# Altium integrated library NSC Switcher.IntLib: 2027 symbols (part 9 of 54)
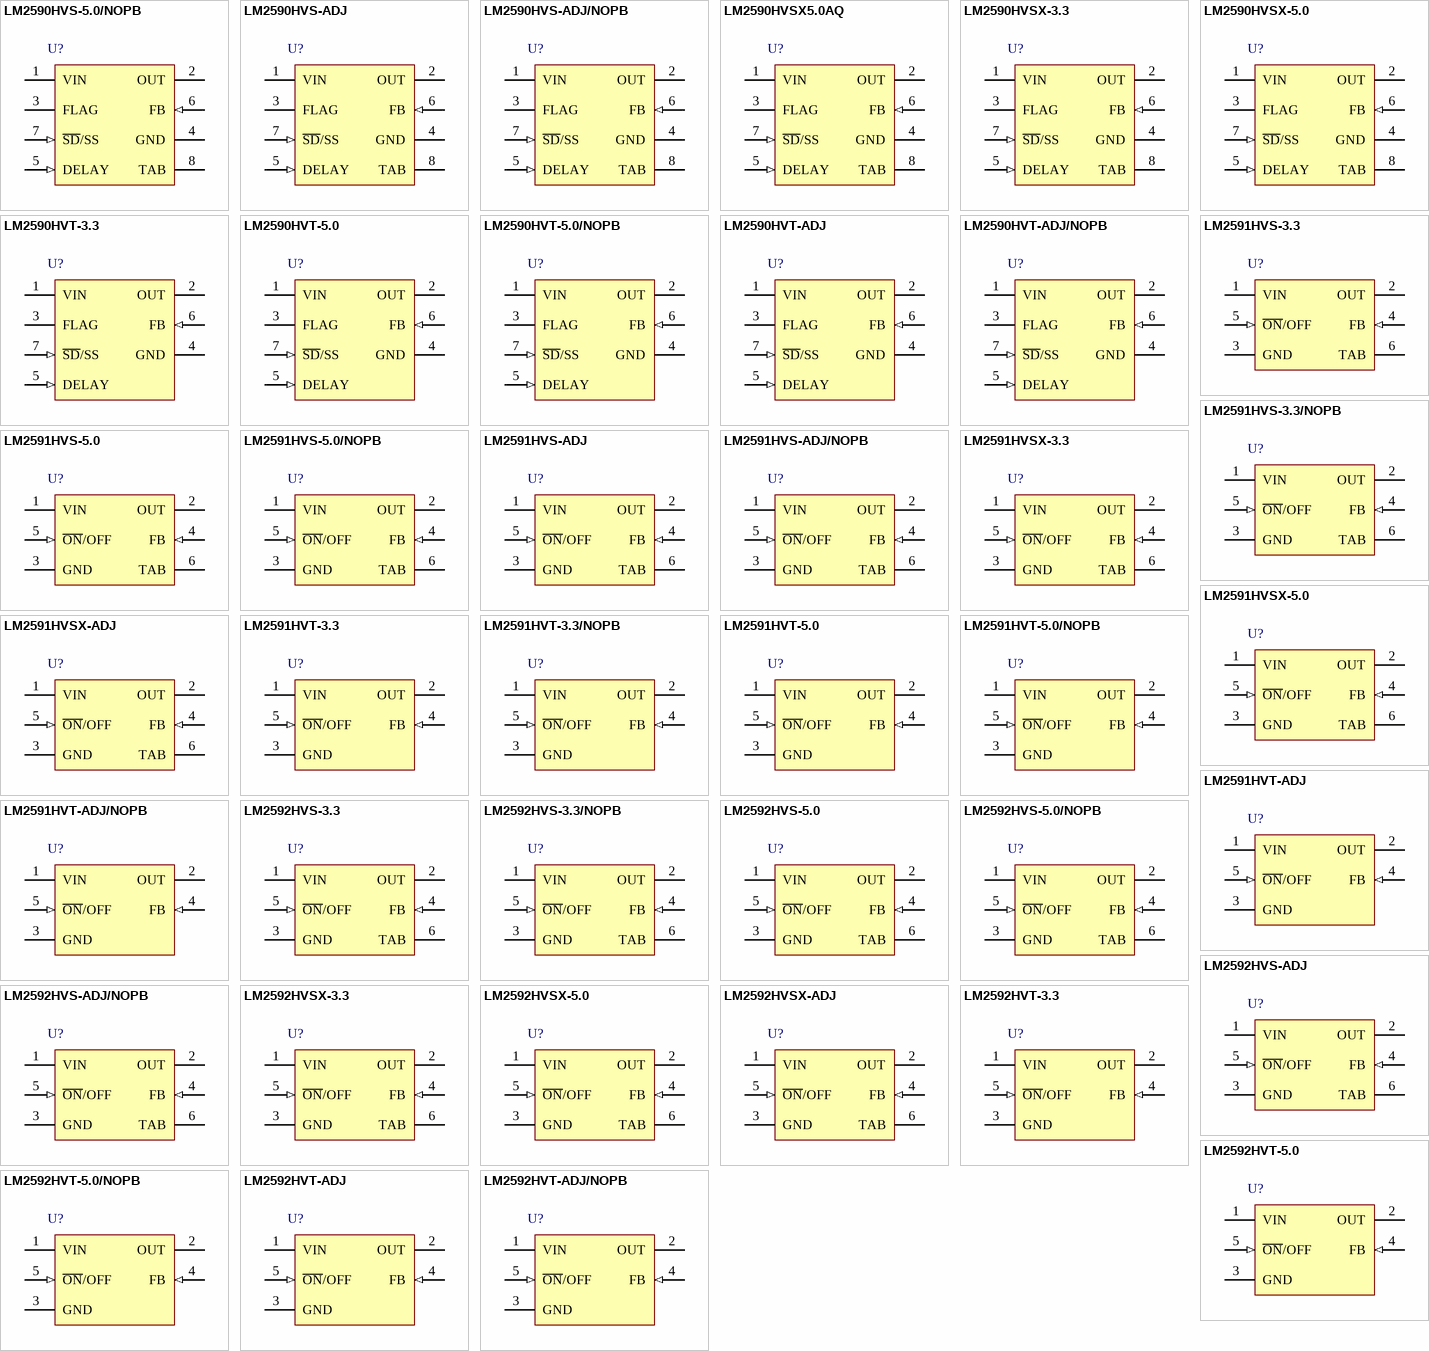
[diagram p71: symbols LM2590HVS-5.0/NOPB to LM2592HVT-ADJ/NOPB]

## LM2590HVT-3.3
designator U?
SIMPLE SWITCHER® Power Converter 150 KHz 1A Step-Down Voltage Regulator with Features, 7-pin TO-220; PartNumber: LM2590HVT-3.3; Manufacturer: National Semiconductor; PackageTopMarking: NSUZXYTTE#*LM2590HVT*-3.3 P+; PowerWise: N; Published: 4-Dec-2008; DatasheetVersion: Dec-2001; PackageVersion: revC, Apr-1999; PackageReference: TA07B; Publisher: Altium Limited; PackageDescription: TO-220, Molded, .400 x .590 x .180in Body, 7 Lead, .050in Pitch, Staggered; Supplier 1: Farnell; Supplier Part Number 1: 9489495; RoHS: N; PinCount: 7; CompType: Switcher; Code_JEDEC: TO-220-AB; ComponentLink1Description: LM2590HV Datasheet; ComponentLink1URL: http://www.national.com/ds/LM/LM2590HV.pdf; ComponentLink2Description: LM2590HV Web Page; ComponentLink2URL: http://www.national.com/pf/LM/LM2590HV.html; ComponentLink3Description: TA07B Package Page; ComponentLink3URL: http://www.national.com/packaging/folders/ta07b.html
footprint TA07B (TO, Thru-Hole, Vertical, Heatsink Mounted; 7 Bent Staggered Leads; Body 10.2x8.7x4.6mm, Pitch 1.27 mm)
pins: 1 VIN (power), 2 OUT (power), 3 FLAG (oc), 4 GND (power), 5 DELAY (in), 6 FB (in), 7 ~{SD}/SS (in)

## LM2590HVT-5.0
designator U?
SIMPLE SWITCHER® Power Converter 150 KHz 1A Step-Down Voltage Regulator with Features, 7-pin TO-220; PartNumber: LM2590HVT-5.0; Manufacturer: National Semiconductor; PackageTopMarking: NSUZXYTTE#*LM2590HVT*-5.0 P+; PowerWise: N; Published: 4-Dec-2008; DatasheetVersion: Dec-2001; PackageVersion: revC, Apr-1999; PackageReference: TA07B; Publisher: Altium Limited; PackageDescription: TO-220, Molded, .400 x .590 x .180in Body, 7 Lead, .050in Pitch, Staggered; Supplier 1: Farnell; Supplier Part Number 1: 9489509; RoHS: N; PinCount: 7; CompType: Switcher; Code_JEDEC: TO-220-AB; ComponentLink1Description: LM2590HV Datasheet; ComponentLink1URL: http://www.national.com/ds/LM/LM2590HV.pdf; ComponentLink2Description: LM2590HV Web Page; ComponentLink2URL: http://www.national.com/pf/LM/LM2590HV.html; ComponentLink3Description: TA07B Package Page; ComponentLink3URL: http://www.national.com/packaging/folders/ta07b.html
footprint TA07B (TO, Thru-Hole, Vertical, Heatsink Mounted; 7 Bent Staggered Leads; Body 10.2x8.7x4.6mm, Pitch 1.27 mm)
pins: 1 VIN (power), 2 OUT (power), 3 FLAG (oc), 4 GND (power), 5 DELAY (in), 6 FB (in), 7 ~{SD}/SS (in)

## LM2590HVT-5.0/NOPB
designator U?
SIMPLE SWITCHER® Power Converter 150 KHz 1A Step-Down Voltage Regulator with Features, 7-pin TO-220, Pb-Free; PartNumber: LM2590HVT-5.0/NOPB; Manufacturer: National Semiconductor; PackageTopMarking: NSUZXYTTE#*LM2590HVT*-5.0 P+; PowerWise: N; Published: 1-Mar-2010; DatasheetVersion: Dec-2001; PackageVersion: revC, Apr-1999; PackageReference: TA07B; Publisher: Altium Limited; PackageDescription: TO-220, Molded, .400 x .590 x .180in Body, 7 Lead, .050in Pitch, Staggered; Supplier 1: Digi-Key; Supplier Part Number 1: LM2590HVT-5.0-ND; RoHS: Y; PinCount: 7; CompType: Switcher; Code_JEDEC: TO-220-AB; ComponentLink1Description: LM2590HV Datasheet; ComponentLink1URL: http://www.national.com/ds/LM/LM2590HV.pdf; ComponentLink2Description: LM2590HV Web Page; ComponentLink2URL: http://www.national.com/pf/LM/LM2590HV.html; ComponentLink3Description: TA07B Package Page; ComponentLink3URL: http://www.national.com/packaging/folders/ta07b.html
footprint TA07B (TO, Thru-Hole, Vertical, Heatsink Mounted; 7 Bent Staggered Leads; Body 10.2x8.7x4.6mm, Pitch 1.27 mm)
pins: 1 VIN (power), 2 OUT (power), 3 FLAG (oc), 4 GND (power), 5 DELAY (in), 6 FB (in), 7 ~{SD}/SS (in)

## LM2590HVT-ADJ
designator U?
SIMPLE SWITCHER® Power Converter 150 KHz 1A Step-Down Voltage Regulator with Features, 7-pin TO-220; PartNumber: LM2590HVT-ADJ; Manufacturer: National Semiconductor; PackageTopMarking: NSUZXYTTE#*LM2590HVT*-ADJ P+; PowerWise: N; Published: 4-Dec-2008; DatasheetVersion: Dec-2001; PackageVersion: revC, Apr-1999; PackageReference: TA07B; Publisher: Altium Limited; PackageDescription: TO-220, Molded, .400 x .590 x .180in Body, 7 Lead, .050in Pitch, Staggered; Supplier 1: Farnell; Supplier Part Number 1: 9489517; RoHS: N; PinCount: 7; CompType: Switcher; Code_JEDEC: TO-220-AB; ComponentLink1Description: LM2590HV Datasheet; ComponentLink1URL: http://www.national.com/ds/LM/LM2590HV.pdf; ComponentLink2Description: LM2590HV Web Page; ComponentLink2URL: http://www.national.com/pf/LM/LM2590HV.html; ComponentLink3Description: TA07B Package Page; ComponentLink3URL: http://www.national.com/packaging/folders/ta07b.html
footprint TA07B (TO, Thru-Hole, Vertical, Heatsink Mounted; 7 Bent Staggered Leads; Body 10.2x8.7x4.6mm, Pitch 1.27 mm)
pins: 1 VIN (power), 2 OUT (power), 3 FLAG (oc), 4 GND (power), 5 DELAY (in), 6 FB (in), 7 ~{SD}/SS (in)

## LM2590HVT-ADJ/NOPB
designator U?
SIMPLE SWITCHER® Power Converter 150 KHz 1A Step-Down Voltage Regulator with Features, 7-pin TO-220, Pb-Free; PartNumber: LM2590HVT-ADJ/NOPB; Manufacturer: National Semiconductor; PackageTopMarking: NSUZXYTTE#*LM2590HVT*-ADJ P+; PowerWise: N; Published: 1-Mar-2010; DatasheetVersion: Dec-2001; PackageVersion: revC, Apr-1999; PackageReference: TA07B; Publisher: Altium Limited; PackageDescription: TO-220, Molded, .400 x .590 x .180in Body, 7 Lead, .050in Pitch, Staggered; Supplier 1: Digi-Key; Supplier Part Number 1: LM2590HVT-ADJ-ND; RoHS: Y; PinCount: 7; CompType: Switcher; Code_JEDEC: TO-220-AB; ComponentLink1Description: LM2590HV Datasheet; ComponentLink1URL: http://www.national.com/ds/LM/LM2590HV.pdf; ComponentLink2Description: LM2590HV Web Page; ComponentLink2URL: http://www.national.com/pf/LM/LM2590HV.html; ComponentLink3Description: TA07B Package Page; ComponentLink3URL: http://www.national.com/packaging/folders/ta07b.html
footprint TA07B (TO, Thru-Hole, Vertical, Heatsink Mounted; 7 Bent Staggered Leads; Body 10.2x8.7x4.6mm, Pitch 1.27 mm)
pins: 1 VIN (power), 2 OUT (power), 3 FLAG (oc), 4 GND (power), 5 DELAY (in), 6 FB (in), 7 ~{SD}/SS (in)

## LM2591HVS-3.3
designator U?
SIMPLE SWITCHER® Power Converter 150 kHz 1A Step-Down Voltage Regulator, 5-pin TO-263; PartNumber: LM2591HVS-3.3; Manufacturer: National Semiconductor; PackageTopMarking: NSUZXYTTE#*LM2591HVS*-3.3 P+; PowerWise: N; Published: 4-Dec-2008; DatasheetVersion: Jul-2003; PackageVersion: revD, Apr-2005; PackageReference: TS5B; Publisher: Altium Limited; PackageDescription: TO-263, Molded, .400 x .390 x .180in, 5 Lead, .067in Pitch, Surface Mount; Supplier 1: Farnell; Supplier Part Number 1: 4800059; RoHS: N; PinCount: 5; CompType: Switcher; Code_JEDEC: MO-169-AB; ComponentLink1Description: LM2591HV Datasheet; ComponentLink1URL: http://www.national.com/ds/LM/LM2591HV.pdf; ComponentLink2Description: LM2591HV Web Page; ComponentLink2URL: http://www.national.com/pf/LM/LM2591HV.html; ComponentLink3Description: TS5B Package Page; ComponentLink3URL: http://www.national.com/packaging/folders/ts5b.html
footprint TS5B_N (D2-PAK, 6-Leads, Body 8.6x10.2mm, Pitch 1.7mm, Lead Span 14.1mm, IPC Medium Density)
footprint TS5B_L (D2-PAK, 6-Leads, Body 8.6x10.2mm, Pitch 1.7mm, Lead Span 14.1mm, IPC High Density)
footprint TS5B_M (D2-PAK, 6-Leads, Body 8.6x10.2mm, Pitch 1.7mm, Lead Span 14.1mm, IPC Low Density)
pins: 1 VIN (power), 2 OUT (power), 3 GND (power), 4 FB (in), 5 ~{ON}/OFF (in), 6 TAB (power)

## LM2591HVS-3.3/NOPB
designator U?
SIMPLE SWITCHER® Power Converter 150 kHz 1A Step-Down Voltage Regulator, 5-pin TO-263, Pb-Free; PartNumber: LM2591HVS-3.3/NOPB; Manufacturer: National Semiconductor; PackageTopMarking: NSUZXYTTE#*LM2591HVS*-3.3 P+; PowerWise: N; Published: 1-Mar-2010; DatasheetVersion: Jul-2003; PackageVersion: revD, Apr-2005; PackageReference: TS5B; Publisher: Altium Limited; PackageDescription: TO-263, Molded, .400 x .390 x .180in, 5 Lead, .067in Pitch, Surface Mount; Supplier 1: Digi-Key; Supplier Part Number 1: LM2591HVS-3.3-ND; RoHS: Y; PinCount: 5; CompType: Switcher; Code_JEDEC: MO-169-AB; ComponentLink1Description: LM2591HV Datasheet; ComponentLink1URL: http://www.national.com/ds/LM/LM2591HV.pdf; ComponentLink2Description: LM2591HV Web Page; ComponentLink2URL: http://www.national.com/pf/LM/LM2591HV.html; ComponentLink3Description: TS5B Package Page; ComponentLink3URL: http://www.national.com/packaging/folders/ts5b.html
footprint TS5B_N (D2-PAK, 6-Leads, Body 8.6x10.2mm, Pitch 1.7mm, Lead Span 14.1mm, IPC Medium Density)
footprint TS5B_L (D2-PAK, 6-Leads, Body 8.6x10.2mm, Pitch 1.7mm, Lead Span 14.1mm, IPC High Density)
footprint TS5B_M (D2-PAK, 6-Leads, Body 8.6x10.2mm, Pitch 1.7mm, Lead Span 14.1mm, IPC Low Density)
pins: 1 VIN (power), 2 OUT (power), 3 GND (power), 4 FB (in), 5 ~{ON}/OFF (in), 6 TAB (power)

## LM2591HVS-5.0
designator U?
SIMPLE SWITCHER® Power Converter 150 kHz 1A Step-Down Voltage Regulator, 5-pin TO-263; PartNumber: LM2591HVS-5.0; Manufacturer: National Semiconductor; PackageTopMarking: NSUZXYTTE#*LM2591HVS*-5.0 P+; PowerWise: N; Published: 4-Dec-2008; DatasheetVersion: Jul-2003; PackageVersion: revD, Apr-2005; PackageReference: TS5B; Publisher: Altium Limited; PackageDescription: TO-263, Molded, .400 x .390 x .180in, 5 Lead, .067in Pitch, Surface Mount; Supplier 1: Farnell; Supplier Part Number 1: 4800060; RoHS: N; PinCount: 5; CompType: Switcher; Code_JEDEC: MO-169-AB; ComponentLink1Description: LM2591HV Datasheet; ComponentLink1URL: http://www.national.com/ds/LM/LM2591HV.pdf; ComponentLink2Description: LM2591HV Web Page; ComponentLink2URL: http://www.national.com/pf/LM/LM2591HV.html; ComponentLink3Description: TS5B Package Page; ComponentLink3URL: http://www.national.com/packaging/folders/ts5b.html
footprint TS5B_N (D2-PAK, 6-Leads, Body 8.6x10.2mm, Pitch 1.7mm, Lead Span 14.1mm, IPC Medium Density)
footprint TS5B_L (D2-PAK, 6-Leads, Body 8.6x10.2mm, Pitch 1.7mm, Lead Span 14.1mm, IPC High Density)
footprint TS5B_M (D2-PAK, 6-Leads, Body 8.6x10.2mm, Pitch 1.7mm, Lead Span 14.1mm, IPC Low Density)
pins: 1 VIN (power), 2 OUT (power), 3 GND (power), 4 FB (in), 5 ~{ON}/OFF (in), 6 TAB (power)

## LM2591HVS-5.0/NOPB
designator U?
SIMPLE SWITCHER® Power Converter 150 kHz 1A Step-Down Voltage Regulator, 5-pin TO-263, Pb-Free; PartNumber: LM2591HVS-5.0/NOPB; Manufacturer: National Semiconductor; PackageTopMarking: NSUZXYTTE#*LM2591HVS*-5.0 P+; PowerWise: N; Published: 1-Mar-2010; DatasheetVersion: Jul-2003; PackageVersion: revD, Apr-2005; PackageReference: TS5B; Publisher: Altium Limited; PackageDescription: TO-263, Molded, .400 x .390 x .180in, 5 Lead, .067in Pitch, Surface Mount; Supplier 1: Digi-Key; Supplier Part Number 1: LM2591HVS-5.0-ND; Supplier 2: Farnell; Supplier Part Number 2: 1469185; RoHS: Y; PinCount: 5; CompType: Switcher; Code_JEDEC: MO-169-AB; ComponentLink1Description: LM2591HV Datasheet; ComponentLink1URL: http://www.national.com/ds/LM/LM2591HV.pdf; ComponentLink2Description: LM2591HV Web Page; ComponentLink2URL: http://www.national.com/pf/LM/LM2591HV.html; ComponentLink3Description: TS5B Package Page; ComponentLink3URL: http://www.national.com/packaging/folders/ts5b.html
footprint TS5B_N (D2-PAK, 6-Leads, Body 8.6x10.2mm, Pitch 1.7mm, Lead Span 14.1mm, IPC Medium Density)
footprint TS5B_L (D2-PAK, 6-Leads, Body 8.6x10.2mm, Pitch 1.7mm, Lead Span 14.1mm, IPC High Density)
footprint TS5B_M (D2-PAK, 6-Leads, Body 8.6x10.2mm, Pitch 1.7mm, Lead Span 14.1mm, IPC Low Density)
pins: 1 VIN (power), 2 OUT (power), 3 GND (power), 4 FB (in), 5 ~{ON}/OFF (in), 6 TAB (power)

## LM2591HVS-ADJ
designator U?
SIMPLE SWITCHER® Power Converter 150 kHz 1A Step-Down Voltage Regulator, 5-pin TO-263; PartNumber: LM2591HVS-ADJ; Manufacturer: National Semiconductor; PackageTopMarking: NSUZXYTTE#*LM2591HVS*-ADJ P+; PowerWise: N; Published: 4-Dec-2008; DatasheetVersion: Jul-2003; PackageVersion: revD, Apr-2005; PackageReference: TS5B; Publisher: Altium Limited; PackageDescription: TO-263, Molded, .400 x .390 x .180in, 5 Lead, .067in Pitch, Surface Mount; Supplier 1: Farnell; Supplier Part Number 1: 4538640; RoHS: N; PinCount: 5; CompType: Switcher; Code_JEDEC: MO-169-AB; ComponentLink1Description: LM2591HV Datasheet; ComponentLink1URL: http://www.national.com/ds/LM/LM2591HV.pdf; ComponentLink2Description: LM2591HV Web Page; ComponentLink2URL: http://www.national.com/pf/LM/LM2591HV.html; ComponentLink3Description: TS5B Package Page; ComponentLink3URL: http://www.national.com/packaging/folders/ts5b.html
footprint TS5B_N (D2-PAK, 6-Leads, Body 8.6x10.2mm, Pitch 1.7mm, Lead Span 14.1mm, IPC Medium Density)
footprint TS5B_L (D2-PAK, 6-Leads, Body 8.6x10.2mm, Pitch 1.7mm, Lead Span 14.1mm, IPC High Density)
footprint TS5B_M (D2-PAK, 6-Leads, Body 8.6x10.2mm, Pitch 1.7mm, Lead Span 14.1mm, IPC Low Density)
pins: 1 VIN (power), 2 OUT (power), 3 GND (power), 4 FB (in), 5 ~{ON}/OFF (in), 6 TAB (power)

## LM2591HVS-ADJ/NOPB
designator U?
SIMPLE SWITCHER® Power Converter 150 kHz 1A Step-Down Voltage Regulator, 5-pin TO-263, Pb-Free; PartNumber: LM2591HVS-ADJ/NOPB; Manufacturer: National Semiconductor; PackageTopMarking: NSUZXYTTE#*LM2591HVS*-ADJ P+; PowerWise: N; Published: 1-Mar-2010; DatasheetVersion: Jul-2003; PackageVersion: revD, Apr-2005; PackageReference: TS5B; Publisher: Altium Limited; PackageDescription: TO-263, Molded, .400 x .390 x .180in, 5 Lead, .067in Pitch, Surface Mount; Supplier 1: Digi-Key; Supplier Part Number 1: LM2591HVS-ADJ-ND; Supplier 2: Farnell; Supplier Part Number 2: 1469184; RoHS: Y; PinCount: 5; CompType: Switcher; Code_JEDEC: MO-169-AB; ComponentLink1Description: LM2591HV Datasheet; ComponentLink1URL: http://www.national.com/ds/LM/LM2591HV.pdf; ComponentLink2Description: LM2591HV Web Page; ComponentLink2URL: http://www.national.com/pf/LM/LM2591HV.html; ComponentLink3Description: TS5B Package Page; ComponentLink3URL: http://www.national.com/packaging/folders/ts5b.html
footprint TS5B_N (D2-PAK, 6-Leads, Body 8.6x10.2mm, Pitch 1.7mm, Lead Span 14.1mm, IPC Medium Density)
footprint TS5B_L (D2-PAK, 6-Leads, Body 8.6x10.2mm, Pitch 1.7mm, Lead Span 14.1mm, IPC High Density)
footprint TS5B_M (D2-PAK, 6-Leads, Body 8.6x10.2mm, Pitch 1.7mm, Lead Span 14.1mm, IPC Low Density)
pins: 1 VIN (power), 2 OUT (power), 3 GND (power), 4 FB (in), 5 ~{ON}/OFF (in), 6 TAB (power)

## LM2591HVSX-3.3
designator U?
SIMPLE SWITCHER® Power Converter 150 kHz 1A Step-Down Voltage Regulator, 5-pin TO-263; PartNumber: LM2591HVSX-3.3; Manufacturer: National Semiconductor; PackageTopMarking: NSUZXYTTE#*LM2591HVS*-3.3 P+; PowerWise: N; Published: 1-Mar-2010; DatasheetVersion: Jul-2003; PackageVersion: revD, Apr-2005; PackageReference: TS5B; Publisher: Altium Limited; PackageDescription: TO-263, Molded, .400 x .390 x .180in, 5 Lead, .067in Pitch, Surface Mount; RoHS: N; PinCount: 5; CompType: Switcher; Code_JEDEC: MO-169-AB; ComponentLink1Description: LM2591HV Datasheet; ComponentLink1URL: http://www.national.com/ds/LM/LM2591HV.pdf; ComponentLink2Description: LM2591HV Web Page; ComponentLink2URL: http://www.national.com/pf/LM/LM2591HV.html; ComponentLink3Description: TS5B Package Page; ComponentLink3URL: http://www.national.com/packaging/folders/ts5b.html
footprint TS5B_N (D2-PAK, 6-Leads, Body 8.6x10.2mm, Pitch 1.7mm, Lead Span 14.1mm, IPC Medium Density)
footprint TS5B_L (D2-PAK, 6-Leads, Body 8.6x10.2mm, Pitch 1.7mm, Lead Span 14.1mm, IPC High Density)
footprint TS5B_M (D2-PAK, 6-Leads, Body 8.6x10.2mm, Pitch 1.7mm, Lead Span 14.1mm, IPC Low Density)
pins: 1 VIN (power), 2 OUT (power), 3 GND (power), 4 FB (in), 5 ~{ON}/OFF (in), 6 TAB (power)

## LM2591HVSX-5.0
designator U?
SIMPLE SWITCHER® Power Converter 150 kHz 1A Step-Down Voltage Regulator, 5-pin TO-263; PartNumber: LM2591HVSX-5.0; Manufacturer: National Semiconductor; PackageTopMarking: NSUZXYTTE#*LM2591HVS*-5.0 P+; PowerWise: N; Published: 1-Mar-2010; DatasheetVersion: Jul-2003; PackageVersion: revD, Apr-2005; PackageReference: TS5B; Publisher: Altium Limited; PackageDescription: TO-263, Molded, .400 x .390 x .180in, 5 Lead, .067in Pitch, Surface Mount; RoHS: N; PinCount: 5; CompType: Switcher; Code_JEDEC: MO-169-AB; ComponentLink1Description: LM2591HV Datasheet; ComponentLink1URL: http://www.national.com/ds/LM/LM2591HV.pdf; ComponentLink2Description: LM2591HV Web Page; ComponentLink2URL: http://www.national.com/pf/LM/LM2591HV.html; ComponentLink3Description: TS5B Package Page; ComponentLink3URL: http://www.national.com/packaging/folders/ts5b.html
footprint TS5B_N (D2-PAK, 6-Leads, Body 8.6x10.2mm, Pitch 1.7mm, Lead Span 14.1mm, IPC Medium Density)
footprint TS5B_L (D2-PAK, 6-Leads, Body 8.6x10.2mm, Pitch 1.7mm, Lead Span 14.1mm, IPC High Density)
footprint TS5B_M (D2-PAK, 6-Leads, Body 8.6x10.2mm, Pitch 1.7mm, Lead Span 14.1mm, IPC Low Density)
pins: 1 VIN (power), 2 OUT (power), 3 GND (power), 4 FB (in), 5 ~{ON}/OFF (in), 6 TAB (power)

## LM2591HVSX-ADJ
designator U?
SIMPLE SWITCHER® Power Converter 150 kHz 1A Step-Down Voltage Regulator, 5-pin TO-263; PartNumber: LM2591HVSX-ADJ; Manufacturer: National Semiconductor; PackageTopMarking: NSUZXYTTE#*LM2591HVS*-ADJ P+; PowerWise: N; Published: 1-Mar-2010; DatasheetVersion: Jul-2003; PackageVersion: revD, Apr-2005; PackageReference: TS5B; Publisher: Altium Limited; PackageDescription: TO-263, Molded, .400 x .390 x .180in, 5 Lead, .067in Pitch, Surface Mount; RoHS: N; PinCount: 5; CompType: Switcher; Code_JEDEC: MO-169-AB; ComponentLink1Description: LM2591HV Datasheet; ComponentLink1URL: http://www.national.com/ds/LM/LM2591HV.pdf; ComponentLink2Description: LM2591HV Web Page; ComponentLink2URL: http://www.national.com/pf/LM/LM2591HV.html; ComponentLink3Description: TS5B Package Page; ComponentLink3URL: http://www.national.com/packaging/folders/ts5b.html
footprint TS5B_N (D2-PAK, 6-Leads, Body 8.6x10.2mm, Pitch 1.7mm, Lead Span 14.1mm, IPC Medium Density)
footprint TS5B_L (D2-PAK, 6-Leads, Body 8.6x10.2mm, Pitch 1.7mm, Lead Span 14.1mm, IPC High Density)
footprint TS5B_M (D2-PAK, 6-Leads, Body 8.6x10.2mm, Pitch 1.7mm, Lead Span 14.1mm, IPC Low Density)
pins: 1 VIN (power), 2 OUT (power), 3 GND (power), 4 FB (in), 5 ~{ON}/OFF (in), 6 TAB (power)

## LM2591HVT-3.3
designator U?
SIMPLE SWITCHER® Power Converter 150 kHz 1A Step-Down Voltage Regulator, 5-pin TO-220; PartNumber: LM2591HVT-3.3; Manufacturer: National Semiconductor; PackageTopMarking: NSUZXYTTE#*LM2591HVT*-3.3 P+; PowerWise: N; Published: 4-Dec-2008; DatasheetVersion: Jul-2003; PackageVersion: revA, Oct-1989; PackageReference: T05D; Publisher: Altium Limited; PackageDescription: TO-220, Molded, Stagger Bend, 5 Lead; Supplier 1: Farnell; Supplier Part Number 1: 9489525; RoHS: N; PinCount: 5; CompType: Switcher; ComponentLink1Description: LM2591HV Datasheet; ComponentLink1URL: http://www.national.com/ds/LM/LM2591HV.pdf; ComponentLink2Description: LM2591HV Web Page; ComponentLink2URL: http://www.national.com/pf/LM/LM2591HV.html; ComponentLink3Description: T05D Package Page; ComponentLink3URL: http://www.national.com/packaging/folders/t05d.html
footprint T05D (TO, Thru-Hole, Vertical, Heatsink Mounted; 5 Bent Staggered Leads; Body 10.3x8.6x4.6mm, Pitch 1.7 mm)
pins: 1 VIN (power), 2 OUT (power), 3 GND (power), 4 FB (in), 5 ~{ON}/OFF (in)

## LM2591HVT-3.3/NOPB
designator U?
SIMPLE SWITCHER® Power Converter 150 kHz 1A Step-Down Voltage Regulator, 5-pin TO-220, Pb-Free; PartNumber: LM2591HVT-3.3/NOPB; Manufacturer: National Semiconductor; PackageTopMarking: NSUZXYTTE#*LM2591HVT*-3.3 P+; PowerWise: N; Published: 1-Mar-2010; DatasheetVersion: Jul-2003; PackageVersion: revA, Oct-1989; PackageReference: T05D; Publisher: Altium Limited; PackageDescription: TO-220, Molded, Stagger Bend, 5 Lead; Supplier 1: Digi-Key; Supplier Part Number 1: LM2591HVT-3.3-ND; RoHS: Y; PinCount: 5; CompType: Switcher; ComponentLink1Description: LM2591HV Datasheet; ComponentLink1URL: http://www.national.com/ds/LM/LM2591HV.pdf; ComponentLink2Description: LM2591HV Web Page; ComponentLink2URL: http://www.national.com/pf/LM/LM2591HV.html; ComponentLink3Description: T05D Package Page; ComponentLink3URL: http://www.national.com/packaging/folders/t05d.html
footprint T05D (TO, Thru-Hole, Vertical, Heatsink Mounted; 5 Bent Staggered Leads; Body 10.3x8.6x4.6mm, Pitch 1.7 mm)
pins: 1 VIN (power), 2 OUT (power), 3 GND (power), 4 FB (in), 5 ~{ON}/OFF (in)

## LM2591HVT-5.0
designator U?
SIMPLE SWITCHER® Power Converter 150 kHz 1A Step-Down Voltage Regulator, 5-pin TO-220; PartNumber: LM2591HVT-5.0; Manufacturer: National Semiconductor; PackageTopMarking: NSUZXYTTE#*LM2591HVT*-5.0 P+; PowerWise: N; Published: 4-Dec-2008; DatasheetVersion: Jul-2003; PackageVersion: revA, Oct-1989; PackageReference: T05D; Publisher: Altium Limited; PackageDescription: TO-220, Molded, Stagger Bend, 5 Lead; Supplier 1: Farnell; Supplier Part Number 1: 9489533; RoHS: N; PinCount: 5; CompType: Switcher; ComponentLink1Description: LM2591HV Datasheet; ComponentLink1URL: http://www.national.com/ds/LM/LM2591HV.pdf; ComponentLink2Description: LM2591HV Web Page; ComponentLink2URL: http://www.national.com/pf/LM/LM2591HV.html; ComponentLink3Description: T05D Package Page; ComponentLink3URL: http://www.national.com/packaging/folders/t05d.html
footprint T05D (TO, Thru-Hole, Vertical, Heatsink Mounted; 5 Bent Staggered Leads; Body 10.3x8.6x4.6mm, Pitch 1.7 mm)
pins: 1 VIN (power), 2 OUT (power), 3 GND (power), 4 FB (in), 5 ~{ON}/OFF (in)

## LM2591HVT-5.0/NOPB
designator U?
SIMPLE SWITCHER® Power Converter 150 kHz 1A Step-Down Voltage Regulator, 5-pin TO-220, Pb-Free; PartNumber: LM2591HVT-5.0/NOPB; Manufacturer: National Semiconductor; PackageTopMarking: NSUZXYTTE#*LM2591HVT*-5.0 P+; PowerWise: N; Published: 1-Mar-2010; DatasheetVersion: Jul-2003; PackageVersion: revA, Oct-1989; PackageReference: T05D; Publisher: Altium Limited; PackageDescription: TO-220, Molded, Stagger Bend, 5 Lead; Supplier 1: Digi-Key; Supplier Part Number 1: LM2591HVT-5.0-ND; RoHS: Y; PinCount: 5; CompType: Switcher; ComponentLink1Description: LM2591HV Datasheet; ComponentLink1URL: http://www.national.com/ds/LM/LM2591HV.pdf; ComponentLink2Description: LM2591HV Web Page; ComponentLink2URL: http://www.national.com/pf/LM/LM2591HV.html; ComponentLink3Description: T05D Package Page; ComponentLink3URL: http://www.national.com/packaging/folders/t05d.html
footprint T05D (TO, Thru-Hole, Vertical, Heatsink Mounted; 5 Bent Staggered Leads; Body 10.3x8.6x4.6mm, Pitch 1.7 mm)
pins: 1 VIN (power), 2 OUT (power), 3 GND (power), 4 FB (in), 5 ~{ON}/OFF (in)

## LM2591HVT-ADJ
designator U?
SIMPLE SWITCHER® Power Converter 150 kHz 1A Step-Down Voltage Regulator, 5-pin TO-220; PartNumber: LM2591HVT-ADJ; Manufacturer: National Semiconductor; PackageTopMarking: NSUZXYTTE#*LM2591HVT*-ADJ P+; PowerWise: N; Published: 4-Dec-2008; DatasheetVersion: Jul-2003; PackageVersion: revA, Oct-1989; PackageReference: T05D; Publisher: Altium Limited; PackageDescription: TO-220, Molded, Stagger Bend, 5 Lead; Supplier 1: Farnell; Supplier Part Number 1: 9489541; RoHS: N; PinCount: 5; CompType: Switcher; ComponentLink1Description: LM2591HV Datasheet; ComponentLink1URL: http://www.national.com/ds/LM/LM2591HV.pdf; ComponentLink2Description: LM2591HV Web Page; ComponentLink2URL: http://www.national.com/pf/LM/LM2591HV.html; ComponentLink3Description: T05D Package Page; ComponentLink3URL: http://www.national.com/packaging/folders/t05d.html
footprint T05D (TO, Thru-Hole, Vertical, Heatsink Mounted; 5 Bent Staggered Leads; Body 10.3x8.6x4.6mm, Pitch 1.7 mm)
pins: 1 VIN (power), 2 OUT (power), 3 GND (power), 4 FB (in), 5 ~{ON}/OFF (in)

## LM2591HVT-ADJ/NOPB
designator U?
SIMPLE SWITCHER® Power Converter 150 kHz 1A Step-Down Voltage Regulator, 5-pin TO-220, Pb-Free; PartNumber: LM2591HVT-ADJ/NOPB; Manufacturer: National Semiconductor; PackageTopMarking: NSUZXYTTE#*LM2591HVT*-ADJ P+; PowerWise: N; Published: 1-Mar-2010; DatasheetVersion: Jul-2003; PackageVersion: revA, Oct-1989; PackageReference: T05D; Publisher: Altium Limited; PackageDescription: TO-220, Molded, Stagger Bend, 5 Lead; Supplier 1: Digi-Key; Supplier Part Number 1: LM2591HVT-ADJ-ND; Supplier 2: Farnell; Supplier Part Number 2: 1693986; RoHS: Y; PinCount: 5; CompType: Switcher; ComponentLink1Description: LM2591HV Datasheet; ComponentLink1URL: http://www.national.com/ds/LM/LM2591HV.pdf; ComponentLink2Description: LM2591HV Web Page; ComponentLink2URL: http://www.national.com/pf/LM/LM2591HV.html; ComponentLink3Description: T05D Package Page; ComponentLink3URL: http://www.national.com/packaging/folders/t05d.html
footprint T05D (TO, Thru-Hole, Vertical, Heatsink Mounted; 5 Bent Staggered Leads; Body 10.3x8.6x4.6mm, Pitch 1.7 mm)
pins: 1 VIN (power), 2 OUT (power), 3 GND (power), 4 FB (in), 5 ~{ON}/OFF (in)

## LM2592HVS-3.3
designator U?
SIMPLE SWITCHER® Power Converter 150 KHz 2A Step-Down Voltage Regulator, 5-pin TO-263; PartNumber: LM2592HVS-3.3; Manufacturer: National Semiconductor; PackageTopMarking: NSUZXYTTE#*LM2592HVS*-3.3 P+; PowerWise: N; Published: 4-Dec-2008; DatasheetVersion: Aug-2001; PackageVersion: revD, Apr-2005; PackageReference: TS5B; Publisher: Altium Limited; PackageDescription: TO-263, Molded, .400 x .390 x .180in, 5 Lead, .067in Pitch, Surface Mount; RoHS: N; PinCount: 5; CompType: Switcher; Code_JEDEC: MO-169-AB; ComponentLink1Description: LM2592HV Datasheet; ComponentLink1URL: http://www.national.com/ds/LM/LM2592HV.pdf; ComponentLink2Description: LM2592HV Web Page; ComponentLink2URL: http://www.national.com/pf/LM/LM2592HV.html; ComponentLink3Description: TS5B Package Page; ComponentLink3URL: http://www.national.com/packaging/folders/ts5b.html
footprint TS5B_N (D2-PAK, 6-Leads, Body 8.6x10.2mm, Pitch 1.7mm, Lead Span 14.1mm, IPC Medium Density)
footprint TS5B_L (D2-PAK, 6-Leads, Body 8.6x10.2mm, Pitch 1.7mm, Lead Span 14.1mm, IPC High Density)
footprint TS5B_M (D2-PAK, 6-Leads, Body 8.6x10.2mm, Pitch 1.7mm, Lead Span 14.1mm, IPC Low Density)
pins: 1 VIN (power), 2 OUT (power), 3 GND (power), 4 FB (in), 5 ~{ON}/OFF (in), 6 TAB (power)

## LM2592HVS-3.3/NOPB
designator U?
SIMPLE SWITCHER® Power Converter 150 KHz 2A Step-Down Voltage Regulator, 5-pin TO-263, Pb-Free; PartNumber: LM2592HVS-3.3/NOPB; Manufacturer: National Semiconductor; PackageTopMarking: NSUZXYTTE#*LM2592HVS*-3.3 P+; PowerWise: N; Published: 1-Mar-2010; DatasheetVersion: Aug-2001; PackageVersion: revD, Apr-2005; PackageReference: TS5B; Publisher: Altium Limited; PackageDescription: TO-263, Molded, .400 x .390 x .180in, 5 Lead, .067in Pitch, Surface Mount; Supplier 1: Digi-Key; Supplier Part Number 1: LM2592HVS-3.3-ND; Supplier 2: Farnell; Supplier Part Number 2: 1150089; RoHS: Y; PinCount: 5; CompType: Switcher; Code_JEDEC: MO-169-AB; ComponentLink1Description: LM2592HV Datasheet; ComponentLink1URL: http://www.national.com/ds/LM/LM2592HV.pdf; ComponentLink2Description: LM2592HV Web Page; ComponentLink2URL: http://www.national.com/pf/LM/LM2592HV.html; ComponentLink3Description: TS5B Package Page; ComponentLink3URL: http://www.national.com/packaging/folders/ts5b.html
footprint TS5B_N (D2-PAK, 6-Leads, Body 8.6x10.2mm, Pitch 1.7mm, Lead Span 14.1mm, IPC Medium Density)
footprint TS5B_L (D2-PAK, 6-Leads, Body 8.6x10.2mm, Pitch 1.7mm, Lead Span 14.1mm, IPC High Density)
footprint TS5B_M (D2-PAK, 6-Leads, Body 8.6x10.2mm, Pitch 1.7mm, Lead Span 14.1mm, IPC Low Density)
pins: 1 VIN (power), 2 OUT (power), 3 GND (power), 4 FB (in), 5 ~{ON}/OFF (in), 6 TAB (power)

## LM2592HVS-5.0
designator U?
SIMPLE SWITCHER® Power Converter 150 KHz 2A Step-Down Voltage Regulator, 5-pin TO-263; PartNumber: LM2592HVS-5.0; Manufacturer: National Semiconductor; PackageTopMarking: NSUZXYTTE#*LM2592HVS*-5.0 P+; PowerWise: N; Published: 4-Dec-2008; DatasheetVersion: Aug-2001; PackageVersion: revD, Apr-2005; PackageReference: TS5B; Publisher: Altium Limited; PackageDescription: TO-263, Molded, .400 x .390 x .180in, 5 Lead, .067in Pitch, Surface Mount; Supplier 1: Farnell; Supplier Part Number 1: 4120243; RoHS: N; PinCount: 5; CompType: Switcher; Code_JEDEC: MO-169-AB; ComponentLink1Description: LM2592HV Datasheet; ComponentLink1URL: http://www.national.com/ds/LM/LM2592HV.pdf; ComponentLink2Description: LM2592HV Web Page; ComponentLink2URL: http://www.national.com/pf/LM/LM2592HV.html; ComponentLink3Description: TS5B Package Page; ComponentLink3URL: http://www.national.com/packaging/folders/ts5b.html
footprint TS5B_N (D2-PAK, 6-Leads, Body 8.6x10.2mm, Pitch 1.7mm, Lead Span 14.1mm, IPC Medium Density)
footprint TS5B_L (D2-PAK, 6-Leads, Body 8.6x10.2mm, Pitch 1.7mm, Lead Span 14.1mm, IPC High Density)
footprint TS5B_M (D2-PAK, 6-Leads, Body 8.6x10.2mm, Pitch 1.7mm, Lead Span 14.1mm, IPC Low Density)
pins: 1 VIN (power), 2 OUT (power), 3 GND (power), 4 FB (in), 5 ~{ON}/OFF (in), 6 TAB (power)

## LM2592HVS-5.0/NOPB
designator U?
SIMPLE SWITCHER® Power Converter 150 KHz 2A Step-Down Voltage Regulator, 5-pin TO-263, Pb-Free; PartNumber: LM2592HVS-5.0/NOPB; Manufacturer: National Semiconductor; PackageTopMarking: NSUZXYTTE#*LM2592HVS*-5.0 P+; PowerWise: N; Published: 1-Mar-2010; DatasheetVersion: Aug-2001; PackageVersion: revD, Apr-2005; PackageReference: TS5B; Publisher: Altium Limited; PackageDescription: TO-263, Molded, .400 x .390 x .180in, 5 Lead, .067in Pitch, Surface Mount; Supplier 1: Digi-Key; Supplier Part Number 1: LM2592HVS-5.0-ND; Supplier 2: Farnell; Supplier Part Number 2: 1469187; RoHS: Y; PinCount: 5; CompType: Switcher; Code_JEDEC: MO-169-AB; ComponentLink1Description: LM2592HV Datasheet; ComponentLink1URL: http://www.national.com/ds/LM/LM2592HV.pdf; ComponentLink2Description: LM2592HV Web Page; ComponentLink2URL: http://www.national.com/pf/LM/LM2592HV.html; ComponentLink3Description: TS5B Package Page; ComponentLink3URL: http://www.national.com/packaging/folders/ts5b.html
footprint TS5B_N (D2-PAK, 6-Leads, Body 8.6x10.2mm, Pitch 1.7mm, Lead Span 14.1mm, IPC Medium Density)
footprint TS5B_L (D2-PAK, 6-Leads, Body 8.6x10.2mm, Pitch 1.7mm, Lead Span 14.1mm, IPC High Density)
footprint TS5B_M (D2-PAK, 6-Leads, Body 8.6x10.2mm, Pitch 1.7mm, Lead Span 14.1mm, IPC Low Density)
pins: 1 VIN (power), 2 OUT (power), 3 GND (power), 4 FB (in), 5 ~{ON}/OFF (in), 6 TAB (power)

## LM2592HVS-ADJ
designator U?
SIMPLE SWITCHER® Power Converter 150 KHz 2A Step-Down Voltage Regulator, 5-pin TO-263; PartNumber: LM2592HVS-ADJ; Manufacturer: National Semiconductor; PackageTopMarking: NSUZXYTTE#*LM2592HVS*-ADJ P+; PowerWise: N; Published: 4-Dec-2008; DatasheetVersion: Aug-2001; PackageVersion: revD, Apr-2005; PackageReference: TS5B; Publisher: Altium Limited; PackageDescription: TO-263, Molded, .400 x .390 x .180in, 5 Lead, .067in Pitch, Surface Mount; Supplier 1: Farnell; Supplier Part Number 1: 4102459; Supplier 2: Farnell; Supplier Part Number 2: 1523816; RoHS: N; PinCount: 5; CompType: Switcher; Code_JEDEC: MO-169-AB; ComponentLink1Description: LM2592HV Datasheet; ComponentLink1URL: http://www.national.com/ds/LM/LM2592HV.pdf; ComponentLink2Description: LM2592HV Web Page; ComponentLink2URL: http://www.national.com/pf/LM/LM2592HV.html; ComponentLink3Description: TS5B Package Page; ComponentLink3URL: http://www.national.com/packaging/folders/ts5b.html
footprint TS5B_N (D2-PAK, 6-Leads, Body 8.6x10.2mm, Pitch 1.7mm, Lead Span 14.1mm, IPC Medium Density)
footprint TS5B_L (D2-PAK, 6-Leads, Body 8.6x10.2mm, Pitch 1.7mm, Lead Span 14.1mm, IPC High Density)
footprint TS5B_M (D2-PAK, 6-Leads, Body 8.6x10.2mm, Pitch 1.7mm, Lead Span 14.1mm, IPC Low Density)
pins: 1 VIN (power), 2 OUT (power), 3 GND (power), 4 FB (in), 5 ~{ON}/OFF (in), 6 TAB (power)

## LM2592HVS-ADJ/NOPB
designator U?
SIMPLE SWITCHER® Power Converter 150 KHz 2A Step-Down Voltage Regulator, 5-pin TO-263, Pb-Free; PartNumber: LM2592HVS-ADJ/NOPB; Manufacturer: National Semiconductor; PackageTopMarking: NSUZXYTTE#*LM2592HVS*-ADJ P+; PowerWise: N; Published: 1-Mar-2010; DatasheetVersion: Aug-2001; PackageVersion: revD, Apr-2005; PackageReference: TS5B; Publisher: Altium Limited; PackageDescription: TO-263, Molded, .400 x .390 x .180in, 5 Lead, .067in Pitch, Surface Mount; Supplier 1: Digi-Key; Supplier Part Number 1: LM2592HVS-ADJ-ND; Supplier 2: Farnell; Supplier Part Number 2: 1171897; RoHS: Y; PinCount: 5; CompType: Switcher; Code_JEDEC: MO-169-AB; ComponentLink1Description: LM2592HV Datasheet; ComponentLink1URL: http://www.national.com/ds/LM/LM2592HV.pdf; ComponentLink2Description: LM2592HV Web Page; ComponentLink2URL: http://www.national.com/pf/LM/LM2592HV.html; ComponentLink3Description: TS5B Package Page; ComponentLink3URL: http://www.national.com/packaging/folders/ts5b.html
footprint TS5B_N (D2-PAK, 6-Leads, Body 8.6x10.2mm, Pitch 1.7mm, Lead Span 14.1mm, IPC Medium Density)
footprint TS5B_L (D2-PAK, 6-Leads, Body 8.6x10.2mm, Pitch 1.7mm, Lead Span 14.1mm, IPC High Density)
footprint TS5B_M (D2-PAK, 6-Leads, Body 8.6x10.2mm, Pitch 1.7mm, Lead Span 14.1mm, IPC Low Density)
pins: 1 VIN (power), 2 OUT (power), 3 GND (power), 4 FB (in), 5 ~{ON}/OFF (in), 6 TAB (power)

## LM2592HVSX-3.3
designator U?
SIMPLE SWITCHER® Power Converter 150 KHz 2A Step-Down Voltage Regulator, 5-pin TO-263; PartNumber: LM2592HVSX-3.3; Manufacturer: National Semiconductor; PackageTopMarking: NSUZXYTTE#*LM2592HVS*-3.3 P+; PowerWise: N; Published: 1-Mar-2010; DatasheetVersion: Aug-2001; PackageVersion: revD, Apr-2005; PackageReference: TS5B; Publisher: Altium Limited; PackageDescription: TO-263, Molded, .400 x .390 x .180in, 5 Lead, .067in Pitch, Surface Mount; RoHS: N; PinCount: 5; CompType: Switcher; Code_JEDEC: MO-169-AB; ComponentLink1Description: LM2592HV Datasheet; ComponentLink1URL: http://www.national.com/ds/LM/LM2592HV.pdf; ComponentLink2Description: LM2592HV Web Page; ComponentLink2URL: http://www.national.com/pf/LM/LM2592HV.html; ComponentLink3Description: TS5B Package Page; ComponentLink3URL: http://www.national.com/packaging/folders/ts5b.html
footprint TS5B_N (D2-PAK, 6-Leads, Body 8.6x10.2mm, Pitch 1.7mm, Lead Span 14.1mm, IPC Medium Density)
footprint TS5B_L (D2-PAK, 6-Leads, Body 8.6x10.2mm, Pitch 1.7mm, Lead Span 14.1mm, IPC High Density)
footprint TS5B_M (D2-PAK, 6-Leads, Body 8.6x10.2mm, Pitch 1.7mm, Lead Span 14.1mm, IPC Low Density)
pins: 1 VIN (power), 2 OUT (power), 3 GND (power), 4 FB (in), 5 ~{ON}/OFF (in), 6 TAB (power)

## LM2592HVSX-5.0
designator U?
SIMPLE SWITCHER® Power Converter 150 KHz 2A Step-Down Voltage Regulator, 5-pin TO-263; PartNumber: LM2592HVSX-5.0; Manufacturer: National Semiconductor; PackageTopMarking: NSUZXYTTE#*LM2592HVS*-5.0 P+; PowerWise: N; Published: 1-Mar-2010; DatasheetVersion: Aug-2001; PackageVersion: revD, Apr-2005; PackageReference: TS5B; Publisher: Altium Limited; PackageDescription: TO-263, Molded, .400 x .390 x .180in, 5 Lead, .067in Pitch, Surface Mount; RoHS: N; PinCount: 5; CompType: Switcher; Code_JEDEC: MO-169-AB; ComponentLink1Description: LM2592HV Datasheet; ComponentLink1URL: http://www.national.com/ds/LM/LM2592HV.pdf; ComponentLink2Description: LM2592HV Web Page; ComponentLink2URL: http://www.national.com/pf/LM/LM2592HV.html; ComponentLink3Description: TS5B Package Page; ComponentLink3URL: http://www.national.com/packaging/folders/ts5b.html
footprint TS5B_N (D2-PAK, 6-Leads, Body 8.6x10.2mm, Pitch 1.7mm, Lead Span 14.1mm, IPC Medium Density)
footprint TS5B_L (D2-PAK, 6-Leads, Body 8.6x10.2mm, Pitch 1.7mm, Lead Span 14.1mm, IPC High Density)
footprint TS5B_M (D2-PAK, 6-Leads, Body 8.6x10.2mm, Pitch 1.7mm, Lead Span 14.1mm, IPC Low Density)
pins: 1 VIN (power), 2 OUT (power), 3 GND (power), 4 FB (in), 5 ~{ON}/OFF (in), 6 TAB (power)

## LM2592HVSX-ADJ
designator U?
SIMPLE SWITCHER® Power Converter 150 KHz 2A Step-Down Voltage Regulator, 5-pin TO-263; PartNumber: LM2592HVSX-ADJ; Manufacturer: National Semiconductor; PackageTopMarking: NSUZXYTTE#*LM2592HVS*-ADJ P+; PowerWise: N; Published: 1-Mar-2010; DatasheetVersion: Aug-2001; PackageVersion: revD, Apr-2005; PackageReference: TS5B; Publisher: Altium Limited; PackageDescription: TO-263, Molded, .400 x .390 x .180in, 5 Lead, .067in Pitch, Surface Mount; RoHS: N; PinCount: 5; CompType: Switcher; Code_JEDEC: MO-169-AB; ComponentLink1Description: LM2592HV Datasheet; ComponentLink1URL: http://www.national.com/ds/LM/LM2592HV.pdf; ComponentLink2Description: LM2592HV Web Page; ComponentLink2URL: http://www.national.com/pf/LM/LM2592HV.html; ComponentLink3Description: TS5B Package Page; ComponentLink3URL: http://www.national.com/packaging/folders/ts5b.html
footprint TS5B_N (D2-PAK, 6-Leads, Body 8.6x10.2mm, Pitch 1.7mm, Lead Span 14.1mm, IPC Medium Density)
footprint TS5B_L (D2-PAK, 6-Leads, Body 8.6x10.2mm, Pitch 1.7mm, Lead Span 14.1mm, IPC High Density)
footprint TS5B_M (D2-PAK, 6-Leads, Body 8.6x10.2mm, Pitch 1.7mm, Lead Span 14.1mm, IPC Low Density)
pins: 1 VIN (power), 2 OUT (power), 3 GND (power), 4 FB (in), 5 ~{ON}/OFF (in), 6 TAB (power)

## LM2592HVT-3.3
designator U?
SIMPLE SWITCHER® Power Converter 150 KHz 2A Step-Down Voltage Regulator, 5-pin TO-220; PartNumber: LM2592HVT-3.3; Manufacturer: National Semiconductor; PackageTopMarking: NSUZXYTTE#*LM2592HVT*-3.3 P+; PowerWise: N; Published: 4-Dec-2008; DatasheetVersion: Aug-2001; PackageVersion: revA, Oct-1989; PackageReference: T05D; Publisher: Altium Limited; PackageDescription: TO-220, Molded, Stagger Bend, 5 Lead; Supplier 1: Farnell; Supplier Part Number 1: 9489550; RoHS: N; PinCount: 5; CompType: Switcher; ComponentLink1Description: LM2592HV Datasheet; ComponentLink1URL: http://www.national.com/ds/LM/LM2592HV.pdf; ComponentLink2Description: LM2592HV Web Page; ComponentLink2URL: http://www.national.com/pf/LM/LM2592HV.html; ComponentLink3Description: T05D Package Page; ComponentLink3URL: http://www.national.com/packaging/folders/t05d.html
footprint T05D (TO, Thru-Hole, Vertical, Heatsink Mounted; 5 Bent Staggered Leads; Body 10.3x8.6x4.6mm, Pitch 1.7 mm)
pins: 1 VIN (power), 2 OUT (power), 3 GND (power), 4 FB (in), 5 ~{ON}/OFF (in)

## LM2592HVT-5.0
designator U?
SIMPLE SWITCHER® Power Converter 150 KHz 2A Step-Down Voltage Regulator, 5-pin TO-220; PartNumber: LM2592HVT-5.0; Manufacturer: National Semiconductor; PackageTopMarking: NSUZXYTTE#*LM2592HVT*-5.0 P+; PowerWise: N; Published: 4-Dec-2008; DatasheetVersion: Aug-2001; PackageVersion: revA, Oct-1989; PackageReference: T05D; Publisher: Altium Limited; PackageDescription: TO-220, Molded, Stagger Bend, 5 Lead; Supplier 1: Farnell; Supplier Part Number 1: 9489576; RoHS: N; PinCount: 5; CompType: Switcher; ComponentLink1Description: LM2592HV Datasheet; ComponentLink1URL: http://www.national.com/ds/LM/LM2592HV.pdf; ComponentLink2Description: LM2592HV Web Page; ComponentLink2URL: http://www.national.com/pf/LM/LM2592HV.html; ComponentLink3Description: T05D Package Page; ComponentLink3URL: http://www.national.com/packaging/folders/t05d.html
footprint T05D (TO, Thru-Hole, Vertical, Heatsink Mounted; 5 Bent Staggered Leads; Body 10.3x8.6x4.6mm, Pitch 1.7 mm)
pins: 1 VIN (power), 2 OUT (power), 3 GND (power), 4 FB (in), 5 ~{ON}/OFF (in)

## LM2592HVT-5.0/NOPB
designator U?
SIMPLE SWITCHER® Power Converter 150 KHz 2A Step-Down Voltage Regulator, 5-pin TO-220, Pb-Free; PartNumber: LM2592HVT-5.0/NOPB; Manufacturer: National Semiconductor; PackageTopMarking: NSUZXYTTE#*LM2592HVT*-5.0 P+; PowerWise: N; Published: 1-Mar-2010; DatasheetVersion: Aug-2001; PackageVersion: revA, Oct-1989; PackageReference: T05D; Publisher: Altium Limited; PackageDescription: TO-220, Molded, Stagger Bend, 5 Lead; Supplier 1: Digi-Key; Supplier Part Number 1: LM2592HVT-5.0-ND; Supplier 2: Farnell; Supplier Part Number 2: 1150092; RoHS: Y; PinCount: 5; CompType: Switcher; ComponentLink1Description: LM2592HV Datasheet; ComponentLink1URL: http://www.national.com/ds/LM/LM2592HV.pdf; ComponentLink2Description: LM2592HV Web Page; ComponentLink2URL: http://www.national.com/pf/LM/LM2592HV.html; ComponentLink3Description: T05D Package Page; ComponentLink3URL: http://www.national.com/packaging/folders/t05d.html
footprint T05D (TO, Thru-Hole, Vertical, Heatsink Mounted; 5 Bent Staggered Leads; Body 10.3x8.6x4.6mm, Pitch 1.7 mm)
pins: 1 VIN (power), 2 OUT (power), 3 GND (power), 4 FB (in), 5 ~{ON}/OFF (in)

## LM2592HVT-ADJ
designator U?
SIMPLE SWITCHER® Power Converter 150 KHz 2A Step-Down Voltage Regulator, 5-pin TO-220; PartNumber: LM2592HVT-ADJ; Manufacturer: National Semiconductor; PackageTopMarking: NSUZXYTTE#*LM2592HVT*-ADJ P+; PowerWise: N; Published: 4-Dec-2008; DatasheetVersion: Aug-2001; PackageVersion: revA, Oct-1989; PackageReference: T05D; Publisher: Altium Limited; PackageDescription: TO-220, Molded, Stagger Bend, 5 Lead; Supplier 1: Farnell; Supplier Part Number 1: 9489584; Supplier 2: Farnell; Supplier Part Number 2: 1523845; RoHS: N; PinCount: 5; CompType: Switcher; ComponentLink1Description: LM2592HV Datasheet; ComponentLink1URL: http://www.national.com/ds/LM/LM2592HV.pdf; ComponentLink2Description: LM2592HV Web Page; ComponentLink2URL: http://www.national.com/pf/LM/LM2592HV.html; ComponentLink3Description: T05D Package Page; ComponentLink3URL: http://www.national.com/packaging/folders/t05d.html
footprint T05D (TO, Thru-Hole, Vertical, Heatsink Mounted; 5 Bent Staggered Leads; Body 10.3x8.6x4.6mm, Pitch 1.7 mm)
pins: 1 VIN (power), 2 OUT (power), 3 GND (power), 4 FB (in), 5 ~{ON}/OFF (in)

## LM2592HVT-ADJ/NOPB
designator U?
SIMPLE SWITCHER® Power Converter 150 KHz 2A Step-Down Voltage Regulator, 5-pin TO-220, Pb-Free; PartNumber: LM2592HVT-ADJ/NOPB; Manufacturer: National Semiconductor; PackageTopMarking: NSUZXYTTE#*LM2592HVT*-ADJ P+; PowerWise: N; Published: 1-Mar-2010; DatasheetVersion: Aug-2001; PackageVersion: revA, Oct-1989; PackageReference: T05D; Publisher: Altium Limited; PackageDescription: TO-220, Molded, Stagger Bend, 5 Lead; Supplier 1: Digi-Key; Supplier Part Number 1: LM2592HVT-ADJ-ND; Supplier 2: Farnell; Supplier Part Number 2: 1276329; RoHS: Y; PinCount: 5; CompType: Switcher; ComponentLink1Description: LM2592HV Datasheet; ComponentLink1URL: http://www.national.com/ds/LM/LM2592HV.pdf; ComponentLink2Description: LM2592HV Web Page; ComponentLink2URL: http://www.national.com/pf/LM/LM2592HV.html; ComponentLink3Description: T05D Package Page; ComponentLink3URL: http://www.national.com/packaging/folders/t05d.html
footprint T05D (TO, Thru-Hole, Vertical, Heatsink Mounted; 5 Bent Staggered Leads; Body 10.3x8.6x4.6mm, Pitch 1.7 mm)
pins: 1 VIN (power), 2 OUT (power), 3 GND (power), 4 FB (in), 5 ~{ON}/OFF (in)

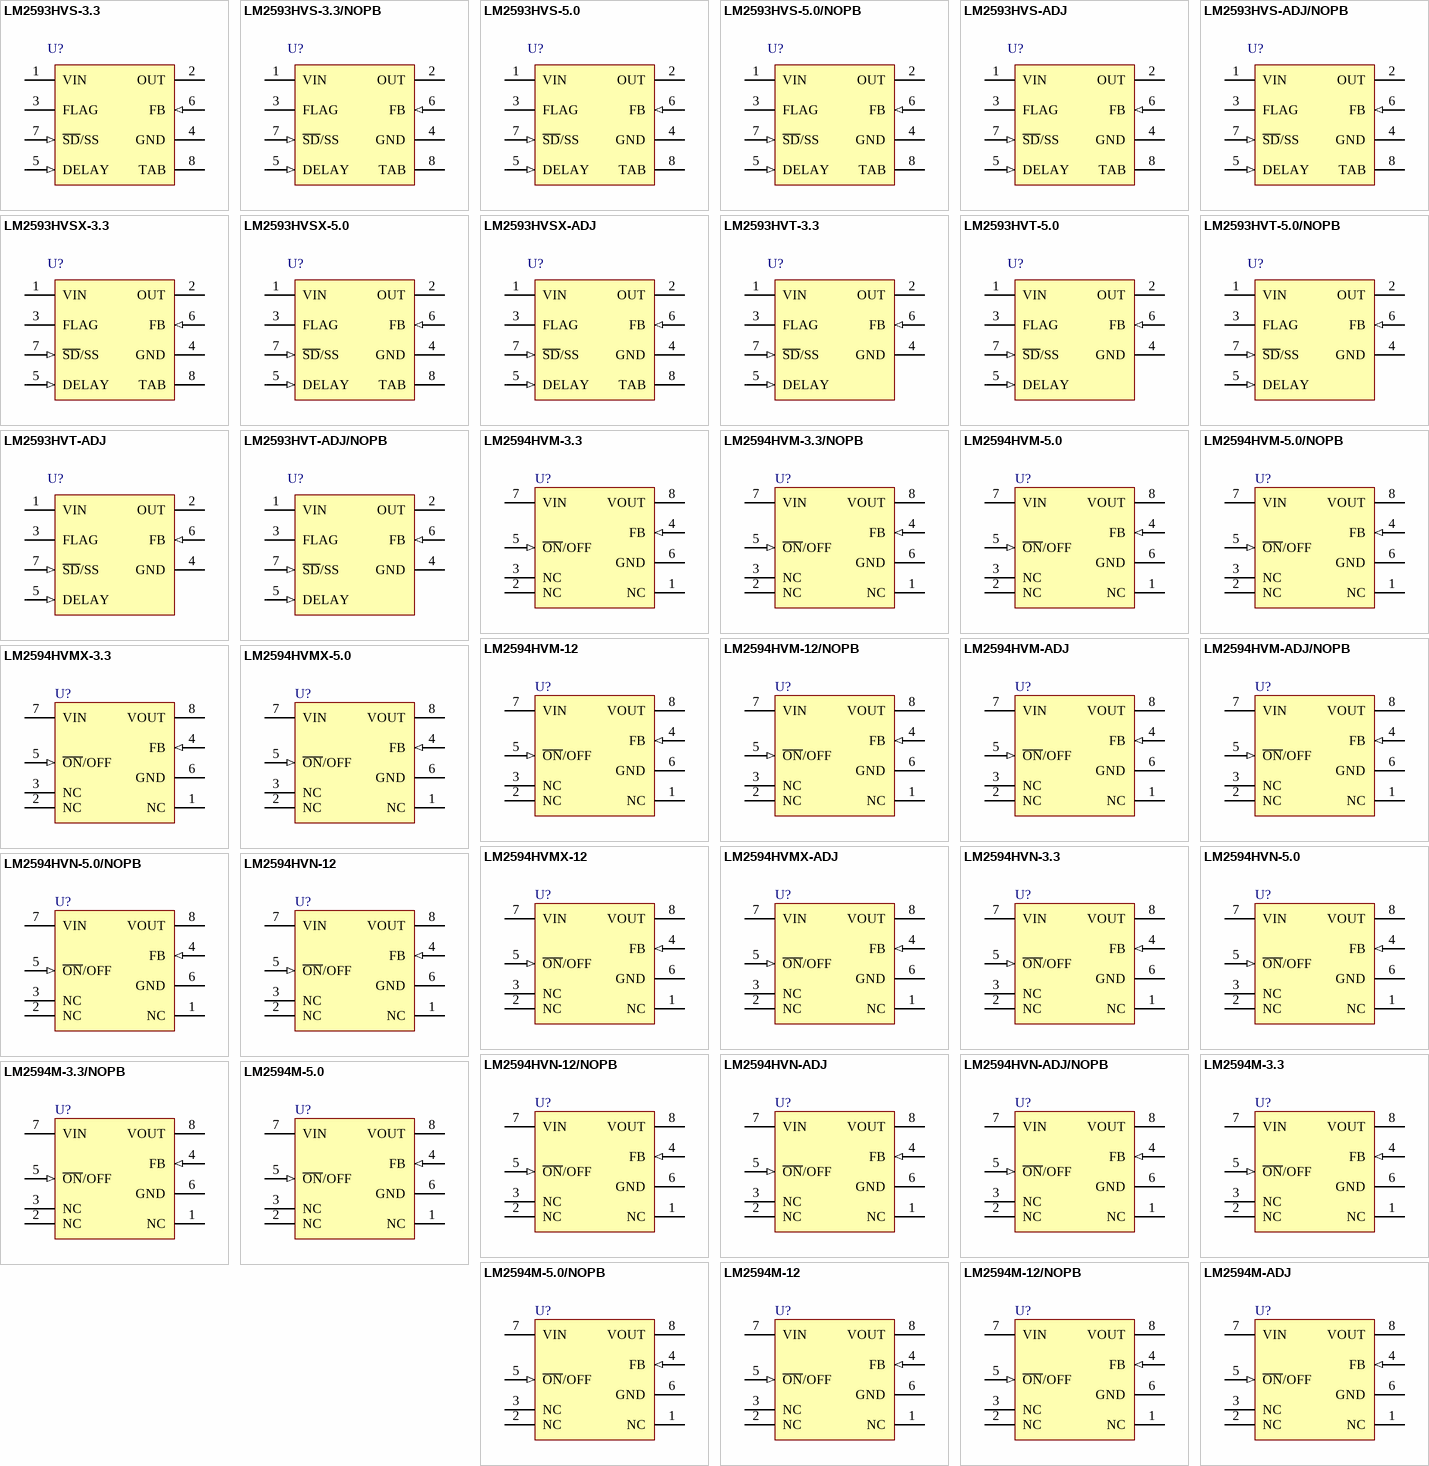
[diagram p9: symbols LM2593HVS-3.3 to LM2594M-ADJ]

## LM2593HVS-3.3
designator U?
SIMPLE SWITCHER® Power Converter 150 KHz 2A Step-Down Voltage Regulator with Features, 7-pin TO-263; PartNumber: LM2593HVS-3.3; Manufacturer: National Semiconductor; PackageTopMarking: NSUZXYTTE#*LM2593HVS*-3.3 P+; PowerWise: N; Published: 4-Dec-2008; DatasheetVersion: Dec-2001; PackageVersion: revE, Jul-2003; PackageReference: TS7B; Publisher: Altium Limited; PackageDescription: TO-263, Molded, .400 x .390 x .180in Body, 7 Lead, .050in Pitch, Surface Mount; RoHS: N; PinCount: 7; CompType: Switcher; Code_JEDEC: MO-169-AC; ComponentLink1Description: LM2593HV Datasheet; ComponentLink1URL: http://www.national.com/ds/LM/LM2593HV.pdf; ComponentLink2Description: LM2593HV Web Page; ComponentLink2URL: http://www.national.com/pf/LM/LM2593HV.html; ComponentLink3Description: TS7B Package Page; ComponentLink3URL: http://www.national.com/packaging/folders/ts7b.html
footprint TS7B_N (D2-PAK, 8-Leads, Body 8.6x10.2mm, Pitch 1.27mm, Lead Span 14.1mm, IPC Medium Density)
footprint TS7B_L (D2-PAK, 8-Leads, Body 8.6x10.2mm, Pitch 1.27mm, Lead Span 14.1mm, IPC High Density)
footprint TS7B_M (D2-PAK, 8-Leads, Body 8.6x10.2mm, Pitch 1.27mm, Lead Span 14.1mm, IPC Low Density)
pins: 1 VIN (power), 2 OUT (power), 3 FLAG (oc), 4 GND (power), 5 DELAY (in), 6 FB (in), 7 ~{SD}/SS (in), 8 TAB (power)

## LM2593HVS-3.3/NOPB
designator U?
SIMPLE SWITCHER® Power Converter 150 KHz 2A Step-Down Voltage Regulator with Features, 7-pin TO-263, Pb-Free; PartNumber: LM2593HVS-3.3/NOPB; Manufacturer: National Semiconductor; PackageTopMarking: NSUZXYTTE#*LM2593HVS*-3.3 P+; PowerWise: N; Published: 1-Mar-2010; DatasheetVersion: Dec-2001; PackageVersion: revE, Jul-2003; PackageReference: TS7B; Publisher: Altium Limited; PackageDescription: TO-263, Molded, .400 x .390 x .180in Body, 7 Lead, .050in Pitch, Surface Mount; Supplier 1: Digi-Key; Supplier Part Number 1: LM2593HVS-3.3-ND; Supplier 2: Farnell; Supplier Part Number 2: 1564634; RoHS: Y; PinCount: 7; CompType: Switcher; Code_JEDEC: MO-169-AC; ComponentLink1Description: LM2593HV Datasheet; ComponentLink1URL: http://www.national.com/ds/LM/LM2593HV.pdf; ComponentLink2Description: LM2593HV Web Page; ComponentLink2URL: http://www.national.com/pf/LM/LM2593HV.html; ComponentLink3Description: TS7B Package Page; ComponentLink3URL: http://www.national.com/packaging/folders/ts7b.html
footprint TS7B_N (D2-PAK, 8-Leads, Body 8.6x10.2mm, Pitch 1.27mm, Lead Span 14.1mm, IPC Medium Density)
footprint TS7B_L (D2-PAK, 8-Leads, Body 8.6x10.2mm, Pitch 1.27mm, Lead Span 14.1mm, IPC High Density)
footprint TS7B_M (D2-PAK, 8-Leads, Body 8.6x10.2mm, Pitch 1.27mm, Lead Span 14.1mm, IPC Low Density)
pins: 1 VIN (power), 2 OUT (power), 3 FLAG (oc), 4 GND (power), 5 DELAY (in), 6 FB (in), 7 ~{SD}/SS (in), 8 TAB (power)

## LM2593HVS-5.0
designator U?
SIMPLE SWITCHER® Power Converter 150 KHz 2A Step-Down Voltage Regulator with Features, 7-pin TO-263; PartNumber: LM2593HVS-5.0; Manufacturer: National Semiconductor; PackageTopMarking: NSUZXYTTE#*LM2593HVS*-5.0 P+; PowerWise: N; Published: 4-Dec-2008; DatasheetVersion: Dec-2001; PackageVersion: revE, Jul-2003; PackageReference: TS7B; Publisher: Altium Limited; PackageDescription: TO-263, Molded, .400 x .390 x .180in Body, 7 Lead, .050in Pitch, Surface Mount; Supplier 1: Farnell; Supplier Part Number 1: 4538663; RoHS: N; PinCount: 7; CompType: Switcher; Code_JEDEC: MO-169-AC; ComponentLink1Description: LM2593HV Datasheet; ComponentLink1URL: http://www.national.com/ds/LM/LM2593HV.pdf; ComponentLink2Description: LM2593HV Web Page; ComponentLink2URL: http://www.national.com/pf/LM/LM2593HV.html; ComponentLink3Description: TS7B Package Page; ComponentLink3URL: http://www.national.com/packaging/folders/ts7b.html
footprint TS7B_N (D2-PAK, 8-Leads, Body 8.6x10.2mm, Pitch 1.27mm, Lead Span 14.1mm, IPC Medium Density)
footprint TS7B_L (D2-PAK, 8-Leads, Body 8.6x10.2mm, Pitch 1.27mm, Lead Span 14.1mm, IPC High Density)
footprint TS7B_M (D2-PAK, 8-Leads, Body 8.6x10.2mm, Pitch 1.27mm, Lead Span 14.1mm, IPC Low Density)
pins: 1 VIN (power), 2 OUT (power), 3 FLAG (oc), 4 GND (power), 5 DELAY (in), 6 FB (in), 7 ~{SD}/SS (in), 8 TAB (power)

## LM2593HVS-5.0/NOPB
designator U?
SIMPLE SWITCHER® Power Converter 150 KHz 2A Step-Down Voltage Regulator with Features, 7-pin TO-263, Pb-Free; PartNumber: LM2593HVS-5.0/NOPB; Manufacturer: National Semiconductor; PackageTopMarking: NSUZXYTTE#*LM2593HVS*-5.0 P+; PowerWise: N; Published: 1-Mar-2010; DatasheetVersion: Dec-2001; PackageVersion: revE, Jul-2003; PackageReference: TS7B; Publisher: Altium Limited; PackageDescription: TO-263, Molded, .400 x .390 x .180in Body, 7 Lead, .050in Pitch, Surface Mount; Supplier 1: Digi-Key; Supplier Part Number 1: LM2593HVS-5.0-ND; Supplier 2: Farnell; Supplier Part Number 2: 1469188; RoHS: Y; PinCount: 7; CompType: Switcher; Code_JEDEC: MO-169-AC; ComponentLink1Description: LM2593HV Datasheet; ComponentLink1URL: http://www.national.com/ds/LM/LM2593HV.pdf; ComponentLink2Description: LM2593HV Web Page; ComponentLink2URL: http://www.national.com/pf/LM/LM2593HV.html; ComponentLink3Description: TS7B Package Page; ComponentLink3URL: http://www.national.com/packaging/folders/ts7b.html
footprint TS7B_N (D2-PAK, 8-Leads, Body 8.6x10.2mm, Pitch 1.27mm, Lead Span 14.1mm, IPC Medium Density)
footprint TS7B_L (D2-PAK, 8-Leads, Body 8.6x10.2mm, Pitch 1.27mm, Lead Span 14.1mm, IPC High Density)
footprint TS7B_M (D2-PAK, 8-Leads, Body 8.6x10.2mm, Pitch 1.27mm, Lead Span 14.1mm, IPC Low Density)
pins: 1 VIN (power), 2 OUT (power), 3 FLAG (oc), 4 GND (power), 5 DELAY (in), 6 FB (in), 7 ~{SD}/SS (in), 8 TAB (power)

## LM2593HVS-ADJ
designator U?
SIMPLE SWITCHER® Power Converter 150 KHz 2A Step-Down Voltage Regulator with Features, 7-pin TO-263; PartNumber: LM2593HVS-ADJ; Manufacturer: National Semiconductor; PackageTopMarking: NSUZXYTTE#*LM2593HVS*-ADJ P+; PowerWise: N; Published: 4-Dec-2008; DatasheetVersion: Dec-2001; PackageVersion: revE, Jul-2003; PackageReference: TS7B; Publisher: Altium Limited; PackageDescription: TO-263, Molded, .400 x .390 x .180in Body, 7 Lead, .050in Pitch, Surface Mount; Supplier 1: Farnell; Supplier Part Number 1: 4538651; RoHS: N; PinCount: 7; CompType: Switcher; Code_JEDEC: MO-169-AC; ComponentLink1Description: LM2593HV Datasheet; ComponentLink1URL: http://www.national.com/ds/LM/LM2593HV.pdf; ComponentLink2Description: LM2593HV Web Page; ComponentLink2URL: http://www.national.com/pf/LM/LM2593HV.html; ComponentLink3Description: TS7B Package Page; ComponentLink3URL: http://www.national.com/packaging/folders/ts7b.html
footprint TS7B_N (D2-PAK, 8-Leads, Body 8.6x10.2mm, Pitch 1.27mm, Lead Span 14.1mm, IPC Medium Density)
footprint TS7B_L (D2-PAK, 8-Leads, Body 8.6x10.2mm, Pitch 1.27mm, Lead Span 14.1mm, IPC High Density)
footprint TS7B_M (D2-PAK, 8-Leads, Body 8.6x10.2mm, Pitch 1.27mm, Lead Span 14.1mm, IPC Low Density)
pins: 1 VIN (power), 2 OUT (power), 3 FLAG (oc), 4 GND (power), 5 DELAY (in), 6 FB (in), 7 ~{SD}/SS (in), 8 TAB (power)